# Altium integrated library TI_Logic_Specialty_Logic.IntLib: 2504 symbols (part 39 of 81)
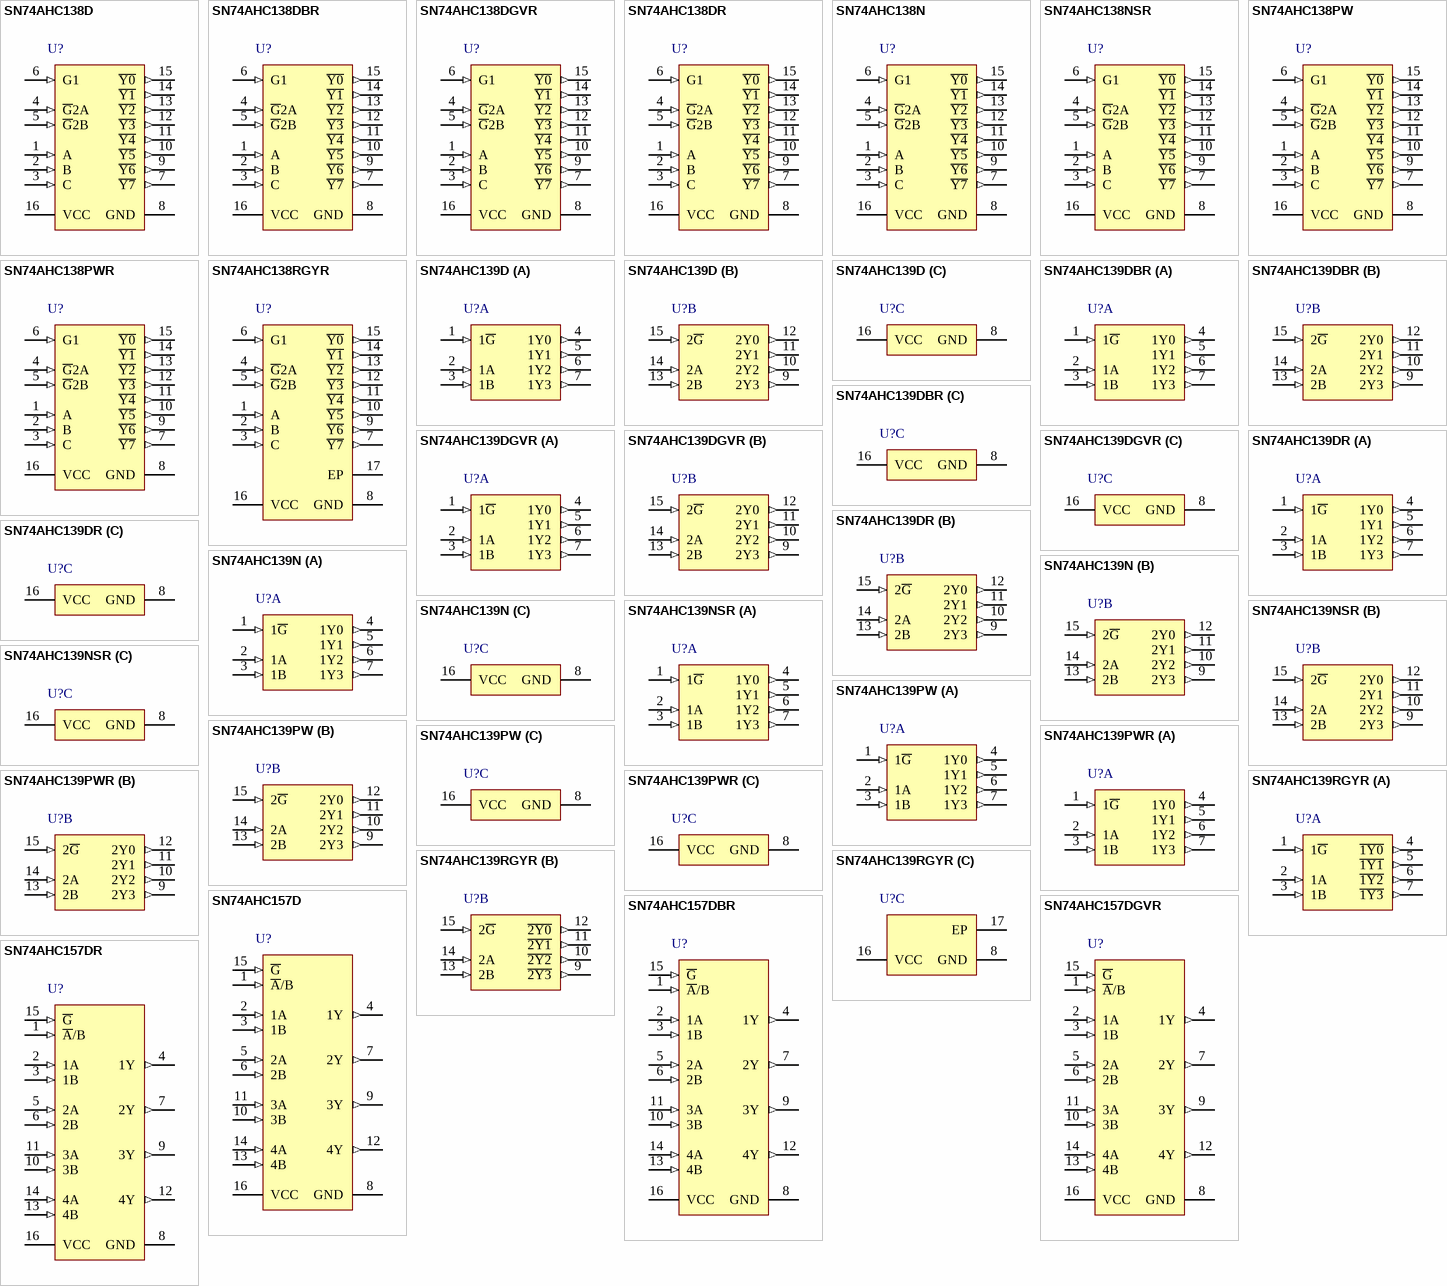
[diagram p142: symbols SN74AHC138D to SN74AHC157DR]

## SN74AHC139NSR
designator U?
Dual 2-Line To 4-Line Decoders / Demultiplexers, NS0016A, LARGE T&R; Generic Part Number: SN74AHC139; Manufacturer: Texas Instruments; PartNumber: SN74AHC139NSR; VCC(Min)(V): 2; VCC(Max)(V): 5.5; Function: Decoder/Demultiplexer; ICC @ Nom Voltage(Max)(mA): 0.04; F @ Nom Voltage(Max)(Mhz): 110; Configuration: 2：4; Rating: Military; Technology Family: AHC; Voltage(Nom)(V): 3.3,5; Schmitt Trigger: No; Output Drive (IOL/IOH)(Max)(mA): 50/-50; tpd @ Nom Voltage(Max)(ns): 13,8.5; DatasheetVersion: SCLS259L; PackageReference: NS0016A; Supplier 1: Mouser; Supplier Part Number 1: 595-SN74AHC139NSR; Supplier 2: Digi-Key; Supplier Part Number 2: 296-28840-2-ND; Supplier 3: Digi-Key; Supplier Part Number 3: 296-28840-1-ND; Supplier 4: Digi-Key; Supplier Part Number 4: 296-28840-6-ND; Operating Temperature Range(C): -40 to 125; Type: Standard; Channels(#): 2; ComponentLink1Description: Manufacturer URL; ComponentLink1URL: http://www.ti.com/; ComponentLink2Description: Datasheet; ComponentLink2URL: http://www.ti.com/lit/ds/symlink/sn74ahc139.pdf; ComponentLink3Description: Package Specification; ComponentLink3URL: http://www.ti.com/lit/ml/msop002a/msop002a.pdf
footprint NS0016A_N (SOIC,16-Leads,Body 10.5x5.6mm,Pitch 1.27mm,IPC Medium Density)
footprint NS0016A_M (SOIC,16-Leads,Body 10.5x5.6mm,Pitch 1.27mm,IPC Low Density)
footprint NS0016A_L (SOIC,16-Leads,Body 10.5x5.6mm,Pitch 1.27mm,IPC High Density)
part A pins: 1 1~{G} (in), 2 1A (in), 3 1B (in), 4 1Y0 (out), 5 1Y1 (out), 6 1Y2 (out), 7 1Y3 (out)
part B pins: 9 2Y3 (out), 10 2Y2 (out), 11 2Y1 (out), 12 2Y0 (out), 13 2B (in), 14 2A (in), 15 2~{G} (in)
part C pins: 8 GND (power), 16 VCC (power)

## SN74AHC139PW
designator U?
Dual 2-Line To 4-Line Decoders / Demultiplexers, PW0016A, TUBE; Generic Part Number: SN74AHC139; Manufacturer: Texas Instruments; PartNumber: SN74AHC139PW; VCC(Min)(V): 2; VCC(Max)(V): 5.5; Function: Decoder/Demultiplexer; ICC @ Nom Voltage(Max)(mA): 0.04; F @ Nom Voltage(Max)(Mhz): 110; Configuration: 2：4; Rating: Military; Technology Family: AHC; Voltage(Nom)(V): 3.3,5; Schmitt Trigger: No; Output Drive (IOL/IOH)(Max)(mA): 50/-50; tpd @ Nom Voltage(Max)(ns): 13,8.5; DatasheetVersion: SCLS259L; PackageReference: PW0016A; Supplier 1: Mouser; Supplier Part Number 1: 595-SN74AHC139PW; Supplier 2: Digi-Key; Supplier Part Number 2: 296-33671-5-ND; Operating Temperature Range(C): -40 to 125; Type: Standard; Channels(#): 2; Code_JEDEC: MO-153; ComponentLink1Description: Manufacturer URL; ComponentLink1URL: http://www.ti.com/; ComponentLink2Description: Datasheet; ComponentLink2URL: http://www.ti.com/lit/ds/symlink/sn74ahc139.pdf; ComponentLink3Description: Package Specification; ComponentLink3URL: http://www.ti.com/lit/ml/mpds361/mpds361.pdf
footprint PW0016A_N (SOP, 16-Leads, Body 5.1x4.5mm, Pitch 0.65mm, IPC Medium Density)
footprint PW0016A_M (SOP, 16-Leads, Body 5.1x4.5mm, Pitch 0.65mm, IPC Low Density)
footprint PW0016A_L (SOP, 16-Leads, Body 5.1x4.5mm, Pitch 0.65mm, IPC High Density)
part A pins: 1 1~{G} (in), 2 1A (in), 3 1B (in), 4 1Y0 (out), 5 1Y1 (out), 6 1Y2 (out), 7 1Y3 (out)
part B pins: 9 2Y3 (out), 10 2Y2 (out), 11 2Y1 (out), 12 2Y0 (out), 13 2B (in), 14 2A (in), 15 2~{G} (in)
part C pins: 8 GND (power), 16 VCC (power)

## SN74AHC139PWR
designator U?
Dual 2-Line To 4-Line Decoders / Demultiplexers, PW0016A, LARGE T&R; Generic Part Number: SN74AHC139; Manufacturer: Texas Instruments; PartNumber: SN74AHC139PWR; VCC(Min)(V): 2; VCC(Max)(V): 5.5; Function: Decoder/Demultiplexer; ICC @ Nom Voltage(Max)(mA): 0.04; F @ Nom Voltage(Max)(Mhz): 110; Configuration: 2：4; Rating: Military; Technology Family: AHC; Voltage(Nom)(V): 3.3,5; Schmitt Trigger: No; Output Drive (IOL/IOH)(Max)(mA): 50/-50; tpd @ Nom Voltage(Max)(ns): 13,8.5; DatasheetVersion: SCLS259L; PackageReference: PW0016A; Supplier 1: Mouser; Supplier Part Number 1: 595-SN74AHC139PWR; Supplier 2: Digi-Key; Supplier Part Number 2: 296-4547-2-ND; Supplier 3: Digi-Key; Supplier Part Number 3: 296-4547-1-ND; Supplier 4: Digi-Key; Supplier Part Number 4: 296-4547-6-ND; Operating Temperature Range(C): -40 to 125; Type: Standard; Channels(#): 2; Code_JEDEC: MO-153; ComponentLink1Description: Manufacturer URL; ComponentLink1URL: http://www.ti.com/; ComponentLink2Description: Datasheet; ComponentLink2URL: http://www.ti.com/lit/ds/symlink/sn74ahc139.pdf; ComponentLink3Description: Package Specification; ComponentLink3URL: http://www.ti.com/lit/ml/mpds361/mpds361.pdf
footprint PW0016A_N (SOP, 16-Leads, Body 5.1x4.5mm, Pitch 0.65mm, IPC Medium Density)
footprint PW0016A_M (SOP, 16-Leads, Body 5.1x4.5mm, Pitch 0.65mm, IPC Low Density)
footprint PW0016A_L (SOP, 16-Leads, Body 5.1x4.5mm, Pitch 0.65mm, IPC High Density)
part A pins: 1 1~{G} (in), 2 1A (in), 3 1B (in), 4 1Y0 (out), 5 1Y1 (out), 6 1Y2 (out), 7 1Y3 (out)
part B pins: 9 2Y3 (out), 10 2Y2 (out), 11 2Y1 (out), 12 2Y0 (out), 13 2B (in), 14 2A (in), 15 2~{G} (in)
part C pins: 8 GND (power), 16 VCC (power)

## SN74AHC139RGYR
designator U?
Dual 2-Line To 4-Line Decoders / Demultiplexers, RGY0016A, LARGE T&R; Generic Part Number: SN74AHC139; Manufacturer: Texas Instruments; PartNumber: SN74AHC139RGYR; VCC(Min)(V): 2; VCC(Max)(V): 5.5; Function: Decoder/Demultiplexer; ICC @ Nom Voltage(Max)(mA): 0.04; F @ Nom Voltage(Max)(Mhz): 110; Configuration: 2：4; Rating: Military; Technology Family: AHC; Voltage(Nom)(V): 3.3,5; Schmitt Trigger: No; Output Drive (IOL/IOH)(Max)(mA): 50/-50; tpd @ Nom Voltage(Max)(ns): 13,8.5; DatasheetVersion: SCLS259L; PackageReference: RGY0016A; Supplier 1: Mouser; Supplier Part Number 1: 595-SN74AHC139RGYR; Supplier 2: Digi-Key; Supplier Part Number 2: 296-13900-2-ND; Supplier 3: Digi-Key; Supplier Part Number 3: 296-13900-1-ND; Supplier 4: Digi-Key; Supplier Part Number 4: 296-13900-6-ND; Operating Temperature Range(C): -40 to 125; Type: Standard; Channels(#): 2; Code_JEDEC: MO-241; ComponentLink1Description: Manufacturer URL; ComponentLink1URL: http://www.ti.com/; ComponentLink2Description: Datasheet; ComponentLink2URL: http://www.ti.com/lit/ds/symlink/sn74ahc139.pdf; ComponentLink3Description: Package Specification; ComponentLink3URL: http://www.ti.com/lit/ml/mpqf115g/mpqf115g.pdf
footprint RGY0016A_V (QFN, 16-Leads, Body 4x3.5mm, Thermal Pad 2.55x2.05mm, TI Recommend)
part A pins: 1 1~{G} (in), 2 1A (in), 3 1B (in), 4 ~{1Y0} (out), 5 ~{1Y1} (out), 6 ~{1Y2} (out), 7 ~{1Y3} (out)
part B pins: 9 ~{2Y3} (out), 10 ~{2Y2} (out), 11 ~{2Y1} (out), 12 ~{2Y0} (out), 13 2B (in), 14 2A (in), 15 2~{G} (in)
part C pins: 8 GND (power), 16 VCC (power), 17 EP

## SN74AHC157D
designator U?
Quadruple 2-Line To 1-Line Data Selectors / Multiplexers, D0016A, TUBE; Generic Part Number: SN74AHC157; Manufacturer: Texas Instruments; PartNumber: SN74AHC157D; VCC(Min)(V): 2; VCC(Max)(V): 5.5; Output Type: CMOS; Function: Encoder/Multiplexer; ICC @ Nom Voltage(Max)(mA): 0.04; Input Type: LVTTL/CMOS; F @ Nom Voltage(Max)(Mhz): 110; Configuration: 2：1; Channels(#): 4; Rating: Catalog; Technology Family: AHC; Voltage(Nom)(V): 3.3,5; Schmitt Trigger: No; Output Drive (IOL/IOH)(Max)(mA): 50/-50; tpd @ Nom Voltage(Max)(ns): 11.5,7.5; DatasheetVersion: SCLS345J; PackageReference: D0016A; Supplier 1: Mouser; Supplier Part Number 1: 595-SN74AHC157D; Supplier 2: Digi-Key; Supplier Part Number 2: 296-4551-5-ND; Bits(#): 2; Operating Temperature Range(C): -40 to 125; Type: Standard; Code_JEDEC: MS-012 variation AC; ComponentLink1Description: Manufacturer URL; ComponentLink1URL: http://www.ti.com/; ComponentLink2Description: Datasheet; ComponentLink2URL: http://www.ti.com/lit/ds/symlink/sn74ahc157.pdf; ComponentLink3Description: Package Specification; ComponentLink3URL: http://www.ti.com/lit/ml/mpds178g/mpds178g.pdf
footprint D0016A_N (SOIC, 16-Leads, Body 10x4mm, Pitch 1.27mm, IPC Medium Density)
footprint D0016A_M (SOIC, 16-Leads, Body 10x4mm, Pitch 1.27mm, IPC Low Density)
footprint D0016A_L (SOIC, 16-Leads, Body 10x4mm, Pitch 1.27mm, IPC High Density)
pins: 1 ~{A}/B (in), 2 1A (in), 3 1B (in), 4 1Y (out), 5 2A (in), 6 2B (in), 7 2Y (out), 8 GND (power), 9 3Y (out), 10 3B (in), 11 3A (in), 12 4Y (out), 13 4B (in), 14 4A (in), 15 ~{G} (in), 16 VCC (power)

## SN74AHC157DBR
designator U?
Quadruple 2-Line To 1-Line Data Selectors / Multiplexers, DB0016A, LARGE T&R; Generic Part Number: SN74AHC157; Manufacturer: Texas Instruments; PartNumber: SN74AHC157DBR; VCC(Min)(V): 2; VCC(Max)(V): 5.5; Output Type: CMOS; Function: Encoder/Multiplexer; ICC @ Nom Voltage(Max)(mA): 0.04; Input Type: LVTTL/CMOS; F @ Nom Voltage(Max)(Mhz): 110; Configuration: 2：1; Channels(#): 4; Rating: Catalog; Technology Family: AHC; Voltage(Nom)(V): 3.3,5; Schmitt Trigger: No; Output Drive (IOL/IOH)(Max)(mA): 50/-50; tpd @ Nom Voltage(Max)(ns): 11.5,7.5; DatasheetVersion: SCLS345J; PackageReference: DB0016A; Supplier 1: Mouser; Supplier Part Number 1: 595-SN74AHC157DBR; Supplier 2: Digi-Key; Supplier Part Number 2: 296-4552-2-ND; Supplier 3: Digi-Key; Supplier Part Number 3: 296-4552-1-ND; Supplier 4: Digi-Key; Supplier Part Number 4: 296-4552-6-ND; Bits(#): 2; Operating Temperature Range(C): -40 to 125; Type: Standard; Code_JEDEC: MO-150; ComponentLink1Description: Manufacturer URL; ComponentLink1URL: http://www.ti.com/; ComponentLink2Description: Datasheet; ComponentLink2URL: http://www.ti.com/lit/ds/symlink/sn74ahc157.pdf; ComponentLink3Description: Package Specification; ComponentLink3URL: http://www.ti.com/lit/ml/mpds507/mpds507.pdf
footprint DB0016A_N (SOP, 16-Leads, Body 5.6x6.5mm, Pitch 0.65mm, IPC Medium Density)
footprint DB0016A_M (SOP, 16-Leads, Body 5.6x6.5mm, Pitch 0.65mm, IPC Low Density)
footprint DB0016A_L (SOP, 16-Leads, Body 5.6x6.5mm, Pitch 0.65mm, IPC High Density)
pins: 1 ~{A}/B (in), 2 1A (in), 3 1B (in), 4 1Y (out), 5 2A (in), 6 2B (in), 7 2Y (out), 8 GND (power), 9 3Y (out), 10 3B (in), 11 3A (in), 12 4Y (out), 13 4B (in), 14 4A (in), 15 ~{G} (in), 16 VCC (power)

## SN74AHC157DGVR
designator U?
Quadruple 2-Line To 1-Line Data Selectors / Multiplexers, DGV0016A, LARGE T&R; Generic Part Number: SN74AHC157; Manufacturer: Texas Instruments; PartNumber: SN74AHC157DGVR; VCC(Min)(V): 2; VCC(Max)(V): 5.5; Output Type: CMOS; Function: Encoder/Multiplexer; ICC @ Nom Voltage(Max)(mA): 0.04; Input Type: LVTTL/CMOS; F @ Nom Voltage(Max)(Mhz): 110; Configuration: 2：1; Channels(#): 4; Rating: Catalog; Technology Family: AHC; Voltage(Nom)(V): 3.3,5; Schmitt Trigger: No; Output Drive (IOL/IOH)(Max)(mA): 50/-50; tpd @ Nom Voltage(Max)(ns): 11.5,7.5; DatasheetVersion: SCLS345J; PackageReference: DGV0016A; Supplier 1: Mouser; Supplier Part Number 1: 595-SN74AHC157DGVR; Supplier 2: Digi-Key; Supplier Part Number 2: 296-4553-2-ND; Supplier 3: Digi-Key; Supplier Part Number 3: 296-4553-1-ND; Supplier 4: Digi-Key; Supplier Part Number 4: 296-4553-6-ND; Bits(#): 2; Operating Temperature Range(C): -40 to 125; Type: Standard; Code_JEDEC: MO-194; ComponentLink1Description: Manufacturer URL; ComponentLink1URL: http://www.ti.com/; ComponentLink2Description: Datasheet; ComponentLink2URL: http://www.ti.com/lit/ds/symlink/sn74ahc157.pdf; ComponentLink3Description: Package Specification; ComponentLink3URL: http://www.ti.com/lit/ml/mpds006c/mpds006c.pdf
footprint DGV0016A_N (SOP, 16-Leads, Body 4.5x3.7mm, Pitch 0.4mm, IPC Medium Density)
footprint DGV0016A_M (SOP, 16-Leads, Body 4.5x3.7mm, Pitch 0.4mm, IPC Low Density)
footprint DGV0016A_L (SOP, 16-Leads, Body 4.5x3.7mm, Pitch 0.4mm, IPC High Density)
pins: 1 ~{A}/B (in), 2 1A (in), 3 1B (in), 4 1Y (out), 5 2A (in), 6 2B (in), 7 2Y (out), 8 GND (power), 9 3Y (out), 10 3B (in), 11 3A (in), 12 4Y (out), 13 4B (in), 14 4A (in), 15 ~{G} (in), 16 VCC (power)

## SN74AHC157DR
designator U?
Quadruple 2-Line To 1-Line Data Selectors / Multiplexers, D0016A, LARGE T&R; Generic Part Number: SN74AHC157; Manufacturer: Texas Instruments; PartNumber: SN74AHC157DR; VCC(Min)(V): 2; VCC(Max)(V): 5.5; Output Type: CMOS; Function: Encoder/Multiplexer; ICC @ Nom Voltage(Max)(mA): 0.04; Input Type: LVTTL/CMOS; F @ Nom Voltage(Max)(Mhz): 110; Configuration: 2：1; Channels(#): 4; Rating: Catalog; Technology Family: AHC; Voltage(Nom)(V): 3.3,5; Schmitt Trigger: No; Output Drive (IOL/IOH)(Max)(mA): 50/-50; tpd @ Nom Voltage(Max)(ns): 11.5,7.5; DatasheetVersion: SCLS345J; PackageReference: D0016A; Supplier 1: Mouser; Supplier Part Number 1: 595-SN74AHC157DR; Supplier 2: Digi-Key; Supplier Part Number 2: 296-14700-2-ND; Supplier 3: Digi-Key; Supplier Part Number 3: 296-14700-1-ND; Supplier 4: Digi-Key; Supplier Part Number 4: 296-14700-6-ND; Bits(#): 2; Operating Temperature Range(C): -40 to 125; Type: Standard; Code_JEDEC: MS-012 variation AC; ComponentLink1Description: Manufacturer URL; ComponentLink1URL: http://www.ti.com/; ComponentLink2Description: Datasheet; ComponentLink2URL: http://www.ti.com/lit/ds/symlink/sn74ahc157.pdf; ComponentLink3Description: Package Specification; ComponentLink3URL: http://www.ti.com/lit/ml/mpds178g/mpds178g.pdf
footprint D0016A_N (SOIC, 16-Leads, Body 10x4mm, Pitch 1.27mm, IPC Medium Density)
footprint D0016A_M (SOIC, 16-Leads, Body 10x4mm, Pitch 1.27mm, IPC Low Density)
footprint D0016A_L (SOIC, 16-Leads, Body 10x4mm, Pitch 1.27mm, IPC High Density)
pins: 1 ~{A}/B (in), 2 1A (in), 3 1B (in), 4 1Y (out), 5 2A (in), 6 2B (in), 7 2Y (out), 8 GND (power), 9 3Y (out), 10 3B (in), 11 3A (in), 12 4Y (out), 13 4B (in), 14 4A (in), 15 ~{G} (in), 16 VCC (power)

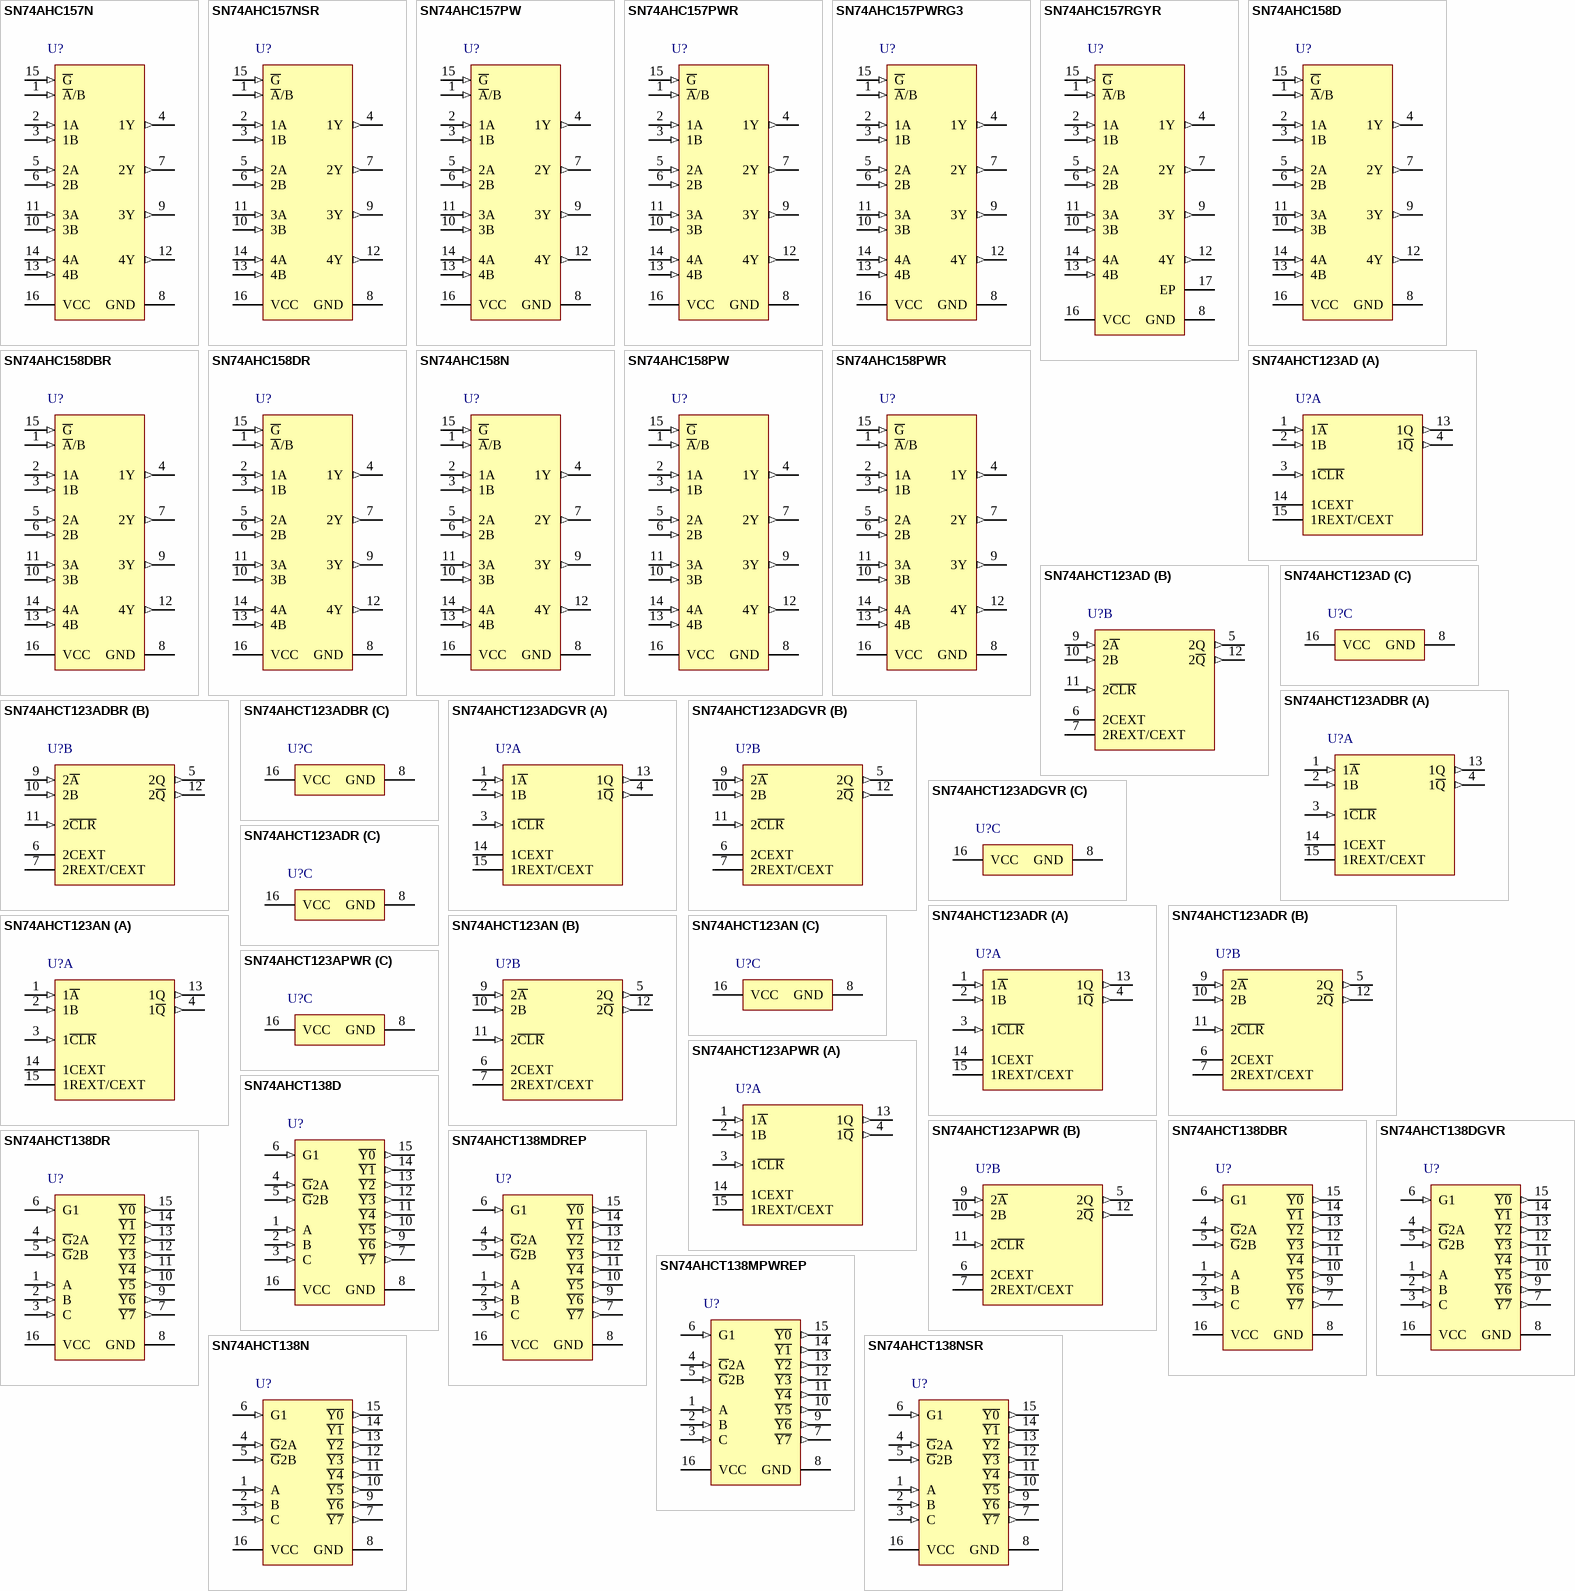
[diagram p51: symbols SN74AHC157N to SN74AHCT138NSR]

## SN74AHC157N
designator U?
Quadruple 2-Line To 1-Line Data Selectors / Multiplexers, N0016A, TUBE; Generic Part Number: SN74AHC157; Manufacturer: Texas Instruments; PartNumber: SN74AHC157N; VCC(Min)(V): 2; VCC(Max)(V): 5.5; Output Type: CMOS; Function: Encoder/Multiplexer; ICC @ Nom Voltage(Max)(mA): 0.04; Input Type: LVTTL/CMOS; F @ Nom Voltage(Max)(Mhz): 110; Configuration: 2：1; Channels(#): 4; Rating: Catalog; Technology Family: AHC; Voltage(Nom)(V): 3.3,5; Schmitt Trigger: No; Output Drive (IOL/IOH)(Max)(mA): 50/-50; tpd @ Nom Voltage(Max)(ns): 11.5,7.5; DatasheetVersion: SCLS345J; PackageReference: N0016A; Supplier 1: Mouser; Supplier Part Number 1: 595-SN74AHC157N; Supplier 2: Digi-Key; Supplier Part Number 2: 296-4554-5-ND; Bits(#): 2; Operating Temperature Range(C): -40 to 125; Type: Standard; Code_JEDEC: MS-001; ComponentLink1Description: Manufacturer URL; ComponentLink1URL: http://www.ti.com/; ComponentLink2Description: Datasheet; ComponentLink2URL: http://www.ti.com/lit/ds/symlink/sn74ahc157.pdf; ComponentLink3Description: Package Specification; ComponentLink3URL: http://www.ti.com/lit/ml/mpdi002c/mpdi002c.pdf
footprint N0016A (DIP, 16-Leads, Body 19.7x6.6mm, Pitch 2.54mm)
pins: 1 ~{A}/B (in), 2 1A (in), 3 1B (in), 4 1Y (out), 5 2A (in), 6 2B (in), 7 2Y (out), 8 GND (power), 9 3Y (out), 10 3B (in), 11 3A (in), 12 4Y (out), 13 4B (in), 14 4A (in), 15 ~{G} (in), 16 VCC (power)

## SN74AHC157NSR
designator U?
Quadruple 2-Line To 1-Line Data Selectors / Multiplexers, NS0016A, LARGE T&R; Generic Part Number: SN74AHC157; Manufacturer: Texas Instruments; PartNumber: SN74AHC157NSR; VCC(Min)(V): 2; VCC(Max)(V): 5.5; Output Type: CMOS; Function: Encoder/Multiplexer; ICC @ Nom Voltage(Max)(mA): 0.04; Input Type: LVTTL/CMOS; F @ Nom Voltage(Max)(Mhz): 110; Configuration: 2：1; Channels(#): 4; Rating: Catalog; Technology Family: AHC; Voltage(Nom)(V): 3.3,5; Schmitt Trigger: No; Output Drive (IOL/IOH)(Max)(mA): 50/-50; tpd @ Nom Voltage(Max)(ns): 11.5,7.5; DatasheetVersion: SCLS345J; PackageReference: NS0016A; Supplier 1: Mouser; Supplier Part Number 1: 595-SN74AHC157NSR; Supplier 2: Digi-Key; Supplier Part Number 2: 296-13134-2-ND; Supplier 3: Digi-Key; Supplier Part Number 3: 296-13134-1-ND; Supplier 4: Digi-Key; Supplier Part Number 4: 296-13134-6-ND; Bits(#): 2; Operating Temperature Range(C): -40 to 125; Type: Standard; ComponentLink1Description: Manufacturer URL; ComponentLink1URL: http://www.ti.com/; ComponentLink2Description: Datasheet; ComponentLink2URL: http://www.ti.com/lit/ds/symlink/sn74ahc157.pdf; ComponentLink3Description: Package Specification; ComponentLink3URL: http://www.ti.com/lit/ml/msop002a/msop002a.pdf
footprint NS0016A_N (SOIC,16-Leads,Body 10.5x5.6mm,Pitch 1.27mm,IPC Medium Density)
footprint NS0016A_M (SOIC,16-Leads,Body 10.5x5.6mm,Pitch 1.27mm,IPC Low Density)
footprint NS0016A_L (SOIC,16-Leads,Body 10.5x5.6mm,Pitch 1.27mm,IPC High Density)
pins: 1 ~{A}/B (in), 2 1A (in), 3 1B (in), 4 1Y (out), 5 2A (in), 6 2B (in), 7 2Y (out), 8 GND (power), 9 3Y (out), 10 3B (in), 11 3A (in), 12 4Y (out), 13 4B (in), 14 4A (in), 15 ~{G} (in), 16 VCC (power)

## SN74AHC157PW
designator U?
Quadruple 2-Line To 1-Line Data Selectors / Multiplexers, PW0016A, TUBE; Generic Part Number: SN74AHC157; Manufacturer: Texas Instruments; PartNumber: SN74AHC157PW; VCC(Min)(V): 2; VCC(Max)(V): 5.5; Output Type: CMOS; Function: Encoder/Multiplexer; ICC @ Nom Voltage(Max)(mA): 0.04; Input Type: LVTTL/CMOS; F @ Nom Voltage(Max)(Mhz): 110; Configuration: 2：1; Channels(#): 4; Rating: Catalog; Technology Family: AHC; Voltage(Nom)(V): 3.3,5; Schmitt Trigger: No; Output Drive (IOL/IOH)(Max)(mA): 50/-50; tpd @ Nom Voltage(Max)(ns): 11.5,7.5; DatasheetVersion: SCLS345J; PackageReference: PW0016A; Supplier 1: Mouser; Supplier Part Number 1: 595-SN74AHC157PW; Supplier 2: Digi-Key; Supplier Part Number 2: 296-33672-5-ND; Bits(#): 2; Operating Temperature Range(C): -40 to 125; Type: Standard; Code_JEDEC: MO-153; ComponentLink1Description: Manufacturer URL; ComponentLink1URL: http://www.ti.com/; ComponentLink2Description: Datasheet; ComponentLink2URL: http://www.ti.com/lit/ds/symlink/sn74ahc157.pdf; ComponentLink3Description: Package Specification; ComponentLink3URL: http://www.ti.com/lit/ml/mpds361/mpds361.pdf
footprint PW0016A_N (SOP, 16-Leads, Body 5.1x4.5mm, Pitch 0.65mm, IPC Medium Density)
footprint PW0016A_M (SOP, 16-Leads, Body 5.1x4.5mm, Pitch 0.65mm, IPC Low Density)
footprint PW0016A_L (SOP, 16-Leads, Body 5.1x4.5mm, Pitch 0.65mm, IPC High Density)
pins: 1 ~{A}/B (in), 2 1A (in), 3 1B (in), 4 1Y (out), 5 2A (in), 6 2B (in), 7 2Y (out), 8 GND (power), 9 3Y (out), 10 3B (in), 11 3A (in), 12 4Y (out), 13 4B (in), 14 4A (in), 15 ~{G} (in), 16 VCC (power)

## SN74AHC157PWR
designator U?
Quadruple 2-Line To 1-Line Data Selectors / Multiplexers, PW0016A, LARGE T&R; Generic Part Number: SN74AHC157; Manufacturer: Texas Instruments; PartNumber: SN74AHC157PWR; VCC(Min)(V): 2; VCC(Max)(V): 5.5; Output Type: CMOS; Function: Encoder/Multiplexer; ICC @ Nom Voltage(Max)(mA): 0.04; Input Type: LVTTL/CMOS; F @ Nom Voltage(Max)(Mhz): 110; Configuration: 2：1; Channels(#): 4; Rating: Catalog; Technology Family: AHC; Voltage(Nom)(V): 3.3,5; Schmitt Trigger: No; Output Drive (IOL/IOH)(Max)(mA): 50/-50; tpd @ Nom Voltage(Max)(ns): 11.5,7.5; DatasheetVersion: SCLS345J; PackageReference: PW0016A; Supplier 1: Mouser; Supplier Part Number 1: 595-SN74AHC157PWR; Supplier 2: Digi-Key; Supplier Part Number 2: 296-4555-2-ND; Supplier 3: Digi-Key; Supplier Part Number 3: 296-4555-1-ND; Supplier 4: Digi-Key; Supplier Part Number 4: 296-4555-6-ND; Bits(#): 2; Operating Temperature Range(C): -40 to 125; Type: Standard; Code_JEDEC: MO-153; ComponentLink1Description: Manufacturer URL; ComponentLink1URL: http://www.ti.com/; ComponentLink2Description: Datasheet; ComponentLink2URL: http://www.ti.com/lit/ds/symlink/sn74ahc157.pdf; ComponentLink3Description: Package Specification; ComponentLink3URL: http://www.ti.com/lit/ml/mpds361/mpds361.pdf
footprint PW0016A_N (SOP, 16-Leads, Body 5.1x4.5mm, Pitch 0.65mm, IPC Medium Density)
footprint PW0016A_M (SOP, 16-Leads, Body 5.1x4.5mm, Pitch 0.65mm, IPC Low Density)
footprint PW0016A_L (SOP, 16-Leads, Body 5.1x4.5mm, Pitch 0.65mm, IPC High Density)
pins: 1 ~{A}/B (in), 2 1A (in), 3 1B (in), 4 1Y (out), 5 2A (in), 6 2B (in), 7 2Y (out), 8 GND (power), 9 3Y (out), 10 3B (in), 11 3A (in), 12 4Y (out), 13 4B (in), 14 4A (in), 15 ~{G} (in), 16 VCC (power)

## SN74AHC157PWRG3
designator U?
Quadruple 2-Line To 1-Line Data Selectors / Multiplexers, PW0016A, LARGE T&R; Generic Part Number: SN74AHC157; Manufacturer: Texas Instruments; PartNumber: SN74AHC157PWRG3; VCC(Min)(V): 2; VCC(Max)(V): 5.5; Output Type: CMOS; Function: Encoder/Multiplexer; ICC @ Nom Voltage(Max)(mA): 0.04; Input Type: LVTTL/CMOS; F @ Nom Voltage(Max)(Mhz): 110; Configuration: 2：1; Channels(#): 4; Rating: Catalog; Technology Family: AHC; Voltage(Nom)(V): 3.3,5; Schmitt Trigger: No; Output Drive (IOL/IOH)(Max)(mA): 50/-50; tpd @ Nom Voltage(Max)(ns): 11.5,7.5; DatasheetVersion: SCLS345J; PackageReference: PW0016A; Supplier 1: Mouser; Supplier Part Number 1: 595-SN74AHC157PWRG3; Supplier 2: Digi-Key; Supplier Part Number 2: 296-40536-2-ND; Supplier 3: Digi-Key; Supplier Part Number 3: 296-40536-1-ND; Supplier 4: Digi-Key; Supplier Part Number 4: 296-40536-6-ND; Bits(#): 2; Operating Temperature Range(C): -40 to 125; Type: Standard; Code_JEDEC: MO-153; ComponentLink1Description: Manufacturer URL; ComponentLink1URL: http://www.ti.com/; ComponentLink2Description: Datasheet; ComponentLink2URL: http://www.ti.com/lit/ds/symlink/sn74ahc157.pdf; ComponentLink3Description: Package Specification; ComponentLink3URL: http://www.ti.com/lit/ml/mpds361/mpds361.pdf
footprint PW0016A_N (SOP, 16-Leads, Body 5.1x4.5mm, Pitch 0.65mm, IPC Medium Density)
footprint PW0016A_M (SOP, 16-Leads, Body 5.1x4.5mm, Pitch 0.65mm, IPC Low Density)
footprint PW0016A_L (SOP, 16-Leads, Body 5.1x4.5mm, Pitch 0.65mm, IPC High Density)
pins: 1 ~{A}/B (in), 2 1A (in), 3 1B (in), 4 1Y (out), 5 2A (in), 6 2B (in), 7 2Y (out), 8 GND (power), 9 3Y (out), 10 3B (in), 11 3A (in), 12 4Y (out), 13 4B (in), 14 4A (in), 15 ~{G} (in), 16 VCC (power)

## SN74AHC157RGYR
designator U?
Quadruple 2-Line To 1-Line Data Selectors / Multiplexers, RGY0016A, LARGE T&R; Generic Part Number: SN74AHC157; Manufacturer: Texas Instruments; PartNumber: SN74AHC157RGYR; VCC(Min)(V): 2; VCC(Max)(V): 5.5; Output Type: CMOS; Function: Encoder/Multiplexer; ICC @ Nom Voltage(Max)(mA): 0.04; Input Type: LVTTL/CMOS; F @ Nom Voltage(Max)(Mhz): 110; Configuration: 2：1; Channels(#): 4; Rating: Catalog; Technology Family: AHC; Voltage(Nom)(V): 3.3,5; Schmitt Trigger: No; Output Drive (IOL/IOH)(Max)(mA): 50/-50; tpd @ Nom Voltage(Max)(ns): 11.5,7.5; DatasheetVersion: SCLS345J; PackageReference: RGY0016A; Supplier 1: Mouser; Supplier Part Number 1: 595-SN74AHC157RGYR; Supplier 2: Digi-Key; Supplier Part Number 2: 296-13902-2-ND; Supplier 3: Digi-Key; Supplier Part Number 3: 296-13902-1-ND; Supplier 4: Digi-Key; Supplier Part Number 4: 296-13902-6-ND; Bits(#): 2; Operating Temperature Range(C): -40 to 125; Type: Standard; Code_JEDEC: MO-241; ComponentLink1Description: Manufacturer URL; ComponentLink1URL: http://www.ti.com/; ComponentLink2Description: Datasheet; ComponentLink2URL: http://www.ti.com/lit/ds/symlink/sn74ahc157.pdf; ComponentLink3Description: Package Specification; ComponentLink3URL: http://www.ti.com/lit/ml/mpqf115g/mpqf115g.pdf
footprint RGY0016A_V (QFN, 16-Leads, Body 4x3.5mm, Thermal Pad 2.55x2.05mm, TI Recommend)
pins: 1 ~{A}/B (in), 2 1A (in), 3 1B (in), 4 1Y (out), 5 2A (in), 6 2B (in), 7 2Y (out), 8 GND (power), 9 3Y (out), 10 3B (in), 11 3A (in), 12 4Y (out), 13 4B (in), 14 4A (in), 15 ~{G} (in), 16 VCC (power), 17 EP

## SN74AHC158D
designator U?
Quadruple 2-Line To 1-Line Data Selectors / Multiplexers, D0016A, TUBE; Generic Part Number: SN74AHC158; Manufacturer: Texas Instruments; PartNumber: SN74AHC158D; VCC(Min)(V): 2; VCC(Max)(V): 5.5; Output Type: CMOS; Function: Encoder/Multiplexer; ICC @ Nom Voltage(Max)(mA): 0.04; Input Type: LVTTL/CMOS; F @ Nom Voltage(Max)(Mhz): 110; Configuration: 2：1; Channels(#): 4; Rating: Catalog; Technology Family: AHC; Voltage(Nom)(V): 3.3,5; Schmitt Trigger: No; Output Drive (IOL/IOH)(Max)(mA): 50/-50; tpd @ Nom Voltage(Max)(ns): 11.5,7.5; DatasheetVersion: SCLS346G; PackageReference: D0016A; Supplier 1: Mouser; Supplier Part Number 1: 595-SN74AHC158D; Supplier 2: Digi-Key; Supplier Part Number 2: 296-33673-5-ND; Bits(#): 2; Operating Temperature Range(C): -40 to 85; Type: Standard; Code_JEDEC: MS-012 variation AC; ComponentLink1Description: Manufacturer URL; ComponentLink1URL: http://www.ti.com/; ComponentLink2Description: Datasheet; ComponentLink2URL: http://www.ti.com/lit/ds/symlink/sn74ahc158.pdf; ComponentLink3Description: Package Specification; ComponentLink3URL: http://www.ti.com/lit/ml/mpds178g/mpds178g.pdf
footprint D0016A_N (SOIC, 16-Leads, Body 10x4mm, Pitch 1.27mm, IPC Medium Density)
footprint D0016A_M (SOIC, 16-Leads, Body 10x4mm, Pitch 1.27mm, IPC Low Density)
footprint D0016A_L (SOIC, 16-Leads, Body 10x4mm, Pitch 1.27mm, IPC High Density)
pins: 1 ~{A}/B (in), 2 1A (in), 3 1B (in), 4 1Y (out), 5 2A (in), 6 2B (in), 7 2Y (out), 8 GND (power), 9 3Y (out), 10 3B (in), 11 3A (in), 12 4Y (out), 13 4B (in), 14 4A (in), 15 ~{G} (in), 16 VCC (power)

## SN74AHC158DBR
designator U?
Quadruple 2-Line To 1-Line Data Selectors / Multiplexers, DB0016A, LARGE T&R; Generic Part Number: SN74AHC158; Manufacturer: Texas Instruments; PartNumber: SN74AHC158DBR; VCC(Min)(V): 2; VCC(Max)(V): 5.5; Output Type: CMOS; Function: Encoder/Multiplexer; ICC @ Nom Voltage(Max)(mA): 0.04; Input Type: LVTTL/CMOS; F @ Nom Voltage(Max)(Mhz): 110; Configuration: 2：1; Channels(#): 4; Rating: Catalog; Technology Family: AHC; Voltage(Nom)(V): 3.3,5; Schmitt Trigger: No; Output Drive (IOL/IOH)(Max)(mA): 50/-50; tpd @ Nom Voltage(Max)(ns): 11.5,7.5; DatasheetVersion: SCLS346G; PackageReference: DB0016A; Supplier 1: Mouser; Supplier Part Number 1: 595-SN74AHC158DBR; Supplier 2: Digi-Key; Supplier Part Number 2: 296-4556-2-ND; Supplier 3: Digi-Key; Supplier Part Number 3: 296-4556-1-ND; Supplier 4: Digi-Key; Supplier Part Number 4: 296-4556-6-ND; Bits(#): 2; Operating Temperature Range(C): -40 to 85; Type: Standard; Code_JEDEC: MO-150; ComponentLink1Description: Manufacturer URL; ComponentLink1URL: http://www.ti.com/; ComponentLink2Description: Datasheet; ComponentLink2URL: http://www.ti.com/lit/ds/symlink/sn74ahc158.pdf; ComponentLink3Description: Package Specification; ComponentLink3URL: http://www.ti.com/lit/ml/mpds507/mpds507.pdf
footprint DB0016A_N (SOP, 16-Leads, Body 5.6x6.5mm, Pitch 0.65mm, IPC Medium Density)
footprint DB0016A_M (SOP, 16-Leads, Body 5.6x6.5mm, Pitch 0.65mm, IPC Low Density)
footprint DB0016A_L (SOP, 16-Leads, Body 5.6x6.5mm, Pitch 0.65mm, IPC High Density)
pins: 1 ~{A}/B (in), 2 1A (in), 3 1B (in), 4 1Y (out), 5 2A (in), 6 2B (in), 7 2Y (out), 8 GND (power), 9 3Y (out), 10 3B (in), 11 3A (in), 12 4Y (out), 13 4B (in), 14 4A (in), 15 ~{G} (in), 16 VCC (power)

## SN74AHC158DR
designator U?
Quadruple 2-Line To 1-Line Data Selectors / Multiplexers, D0016A, LARGE T&R; Generic Part Number: SN74AHC158; Manufacturer: Texas Instruments; PartNumber: SN74AHC158DR; VCC(Min)(V): 2; VCC(Max)(V): 5.5; Output Type: CMOS; Function: Encoder/Multiplexer; ICC @ Nom Voltage(Max)(mA): 0.04; Input Type: LVTTL/CMOS; F @ Nom Voltage(Max)(Mhz): 110; Configuration: 2：1; Channels(#): 4; Rating: Catalog; Technology Family: AHC; Voltage(Nom)(V): 3.3,5; Schmitt Trigger: No; Output Drive (IOL/IOH)(Max)(mA): 50/-50; tpd @ Nom Voltage(Max)(ns): 11.5,7.5; DatasheetVersion: SCLS346G; PackageReference: D0016A; Supplier 1: Mouser; Supplier Part Number 1: 595-SN74AHC158DR; Supplier 2: Digi-Key; Supplier Part Number 2: 296-4558-2-ND; Supplier 3: Digi-Key; Supplier Part Number 3: 296-4558-1-ND; Supplier 4: Digi-Key; Supplier Part Number 4: 296-4558-6-ND; Bits(#): 2; Operating Temperature Range(C): -40 to 85; Type: Standard; Code_JEDEC: MS-012 variation AC; ComponentLink1Description: Manufacturer URL; ComponentLink1URL: http://www.ti.com/; ComponentLink2Description: Datasheet; ComponentLink2URL: http://www.ti.com/lit/ds/symlink/sn74ahc158.pdf; ComponentLink3Description: Package Specification; ComponentLink3URL: http://www.ti.com/lit/ml/mpds178g/mpds178g.pdf
footprint D0016A_N (SOIC, 16-Leads, Body 10x4mm, Pitch 1.27mm, IPC Medium Density)
footprint D0016A_M (SOIC, 16-Leads, Body 10x4mm, Pitch 1.27mm, IPC Low Density)
footprint D0016A_L (SOIC, 16-Leads, Body 10x4mm, Pitch 1.27mm, IPC High Density)
pins: 1 ~{A}/B (in), 2 1A (in), 3 1B (in), 4 1Y (out), 5 2A (in), 6 2B (in), 7 2Y (out), 8 GND (power), 9 3Y (out), 10 3B (in), 11 3A (in), 12 4Y (out), 13 4B (in), 14 4A (in), 15 ~{G} (in), 16 VCC (power)

## SN74AHC158N
designator U?
Quadruple 2-Line To 1-Line Data Selectors / Multiplexers, N0016A, TUBE; Generic Part Number: SN74AHC158; Manufacturer: Texas Instruments; PartNumber: SN74AHC158N; VCC(Min)(V): 2; VCC(Max)(V): 5.5; Output Type: CMOS; Function: Encoder/Multiplexer; ICC @ Nom Voltage(Max)(mA): 0.04; Input Type: LVTTL/CMOS; F @ Nom Voltage(Max)(Mhz): 110; Configuration: 2：1; Channels(#): 4; Rating: Catalog; Technology Family: AHC; Voltage(Nom)(V): 3.3,5; Schmitt Trigger: No; Output Drive (IOL/IOH)(Max)(mA): 50/-50; tpd @ Nom Voltage(Max)(ns): 11.5,7.5; DatasheetVersion: SCLS346G; PackageReference: N0016A; Supplier 1: Mouser; Supplier Part Number 1: 595-SN74AHC158N; Supplier 2: Digi-Key; Supplier Part Number 2: 296-33674-5-ND; Bits(#): 2; Operating Temperature Range(C): -40 to 85; Type: Standard; Code_JEDEC: MS-001; ComponentLink1Description: Manufacturer URL; ComponentLink1URL: http://www.ti.com/; ComponentLink2Description: Datasheet; ComponentLink2URL: http://www.ti.com/lit/ds/symlink/sn74ahc158.pdf; ComponentLink3Description: Package Specification; ComponentLink3URL: http://www.ti.com/lit/ml/mpdi002c/mpdi002c.pdf
footprint N0016A (DIP, 16-Leads, Body 19.7x6.6mm, Pitch 2.54mm)
pins: 1 ~{A}/B (in), 2 1A (in), 3 1B (in), 4 1Y (out), 5 2A (in), 6 2B (in), 7 2Y (out), 8 GND (power), 9 3Y (out), 10 3B (in), 11 3A (in), 12 4Y (out), 13 4B (in), 14 4A (in), 15 ~{G} (in), 16 VCC (power)

## SN74AHC158PW
designator U?
Quadruple 2-Line To 1-Line Data Selectors / Multiplexers, PW0016A, TUBE; Generic Part Number: SN74AHC158; Manufacturer: Texas Instruments; PartNumber: SN74AHC158PW; VCC(Min)(V): 2; VCC(Max)(V): 5.5; Output Type: CMOS; Function: Encoder/Multiplexer; ICC @ Nom Voltage(Max)(mA): 0.04; Input Type: LVTTL/CMOS; F @ Nom Voltage(Max)(Mhz): 110; Configuration: 2：1; Channels(#): 4; Rating: Catalog; Technology Family: AHC; Voltage(Nom)(V): 3.3,5; Schmitt Trigger: No; Output Drive (IOL/IOH)(Max)(mA): 50/-50; tpd @ Nom Voltage(Max)(ns): 11.5,7.5; DatasheetVersion: SCLS346G; PackageReference: PW0016A; Supplier 1: Mouser; Supplier Part Number 1: 595-SN74AHC158PW; Supplier 2: Digi-Key; Supplier Part Number 2: SN74AHC158PW-ND; Bits(#): 2; Operating Temperature Range(C): -40 to 85; Type: Standard; Code_JEDEC: MO-153; ComponentLink1Description: Manufacturer URL; ComponentLink1URL: http://www.ti.com/; ComponentLink2Description: Datasheet; ComponentLink2URL: http://www.ti.com/lit/ds/symlink/sn74ahc158.pdf; ComponentLink3Description: Package Specification; ComponentLink3URL: http://www.ti.com/lit/ml/mpds361/mpds361.pdf
footprint PW0016A_N (SOP, 16-Leads, Body 5.1x4.5mm, Pitch 0.65mm, IPC Medium Density)
footprint PW0016A_M (SOP, 16-Leads, Body 5.1x4.5mm, Pitch 0.65mm, IPC Low Density)
footprint PW0016A_L (SOP, 16-Leads, Body 5.1x4.5mm, Pitch 0.65mm, IPC High Density)
pins: 1 ~{A}/B (in), 2 1A (in), 3 1B (in), 4 1Y (out), 5 2A (in), 6 2B (in), 7 2Y (out), 8 GND (power), 9 3Y (out), 10 3B (in), 11 3A (in), 12 4Y (out), 13 4B (in), 14 4A (in), 15 ~{G} (in), 16 VCC (power)

## SN74AHC158PWR
designator U?
Quadruple 2-Line To 1-Line Data Selectors / Multiplexers, PW0016A, LARGE T&R; Generic Part Number: SN74AHC158; Manufacturer: Texas Instruments; PartNumber: SN74AHC158PWR; VCC(Min)(V): 2; VCC(Max)(V): 5.5; Output Type: CMOS; Function: Encoder/Multiplexer; ICC @ Nom Voltage(Max)(mA): 0.04; Input Type: LVTTL/CMOS; F @ Nom Voltage(Max)(Mhz): 110; Configuration: 2：1; Channels(#): 4; Rating: Catalog; Technology Family: AHC; Voltage(Nom)(V): 3.3,5; Schmitt Trigger: No; Output Drive (IOL/IOH)(Max)(mA): 50/-50; tpd @ Nom Voltage(Max)(ns): 11.5,7.5; DatasheetVersion: SCLS346G; PackageReference: PW0016A; Supplier 1: Mouser; Supplier Part Number 1: 595-SN74AHC158PWR; Supplier 2: Digi-Key; Supplier Part Number 2: 296-4559-2-ND; Supplier 3: Digi-Key; Supplier Part Number 3: 296-4559-1-ND; Supplier 4: Digi-Key; Supplier Part Number 4: 296-4559-6-ND; Bits(#): 2; Operating Temperature Range(C): -40 to 85; Type: Standard; Code_JEDEC: MO-153; ComponentLink1Description: Manufacturer URL; ComponentLink1URL: http://www.ti.com/; ComponentLink2Description: Datasheet; ComponentLink2URL: http://www.ti.com/lit/ds/symlink/sn74ahc158.pdf; ComponentLink3Description: Package Specification; ComponentLink3URL: http://www.ti.com/lit/ml/mpds361/mpds361.pdf
footprint PW0016A_N (SOP, 16-Leads, Body 5.1x4.5mm, Pitch 0.65mm, IPC Medium Density)
footprint PW0016A_M (SOP, 16-Leads, Body 5.1x4.5mm, Pitch 0.65mm, IPC Low Density)
footprint PW0016A_L (SOP, 16-Leads, Body 5.1x4.5mm, Pitch 0.65mm, IPC High Density)
pins: 1 ~{A}/B (in), 2 1A (in), 3 1B (in), 4 1Y (out), 5 2A (in), 6 2B (in), 7 2Y (out), 8 GND (power), 9 3Y (out), 10 3B (in), 11 3A (in), 12 4Y (out), 13 4B (in), 14 4A (in), 15 ~{G} (in), 16 VCC (power)

## SN74AHCT123AD
designator U?
Dual Retriggerable Monostable Multivibrators, D0016A, TUBE; Generic Part Number: SN74AHCT123A; Manufacturer: Texas Instruments; PartNumber: SN74AHCT123AD; VCC(Min)(V): 2; VCC(Max)(V): 5.5; Output Type: CMOS; ICC @ Nom Voltage(Max)(mA): 0.975; Input Type: TTL; F @ Nom Voltage(Max)(Mhz): 110; Rating: Catalog; Technology Family: AHCT; Voltage(Nom)(V): 5; Schmitt Trigger: No; Output Drive (IOL/IOH)(Max)(mA): 8/-8; tpd @ Nom Voltage(Max)(ns): 17; DatasheetVersion: SCLS420G; PackageReference: D0016A; Supplier 1: Mouser; Supplier Part Number 1: 595-SN74AHCT123AD; Supplier 2: Digi-Key; Supplier Part Number 2: 296-39196-5-ND; Bits(#): 2; Operating Temperature Range(C): -40 to 85; Code_JEDEC: MS-012 variation AC; ComponentLink1Description: Manufacturer URL; ComponentLink1URL: http://www.ti.com/; ComponentLink2Description: Datasheet; ComponentLink2URL: http://www.ti.com/lit/ds/symlink/sn74ahct123a.pdf; ComponentLink3Description: Package Specification; ComponentLink3URL: http://www.ti.com/lit/ml/mpds178g/mpds178g.pdf
footprint D0016A_N (SOIC, 16-Leads, Body 10x4mm, Pitch 1.27mm, IPC Medium Density)
footprint D0016A_M (SOIC, 16-Leads, Body 10x4mm, Pitch 1.27mm, IPC Low Density)
footprint D0016A_L (SOIC, 16-Leads, Body 10x4mm, Pitch 1.27mm, IPC High Density)
part A pins: 1 1~{A} (in), 2 1B (in), 3 1~{CLR} (in), 4 1~{Q} (out), 13 1Q (out), 14 1CEXT, 15 1REXT/CEXT
part B pins: 5 2Q (out), 6 2CEXT, 7 2REXT/CEXT, 9 2~{A} (in), 10 2B (in), 11 2~{CLR} (in), 12 2~{Q} (out)
part C pins: 8 GND (power), 16 VCC (power)

## SN74AHCT123ADBR
designator U?
Dual Retriggerable Monostable Multivibrators, DB0016A, LARGE T&R; Generic Part Number: SN74AHCT123A; Manufacturer: Texas Instruments; PartNumber: SN74AHCT123ADBR; VCC(Min)(V): 2; VCC(Max)(V): 5.5; Output Type: CMOS; ICC @ Nom Voltage(Max)(mA): 0.975; Input Type: TTL; F @ Nom Voltage(Max)(Mhz): 110; Rating: Catalog; Technology Family: AHCT; Voltage(Nom)(V): 5; Schmitt Trigger: No; Output Drive (IOL/IOH)(Max)(mA): 8/-8; tpd @ Nom Voltage(Max)(ns): 17; DatasheetVersion: SCLS420G; PackageReference: DB0016A; Supplier 1: Mouser; Supplier Part Number 1: 595-SN74AHCT123ADBR; Supplier 2: Digi-Key; Supplier Part Number 2: 296-4648-2-ND; Supplier 3: Digi-Key; Supplier Part Number 3: 296-4648-1-ND; Supplier 4: Digi-Key; Supplier Part Number 4: 296-4648-6-ND; Bits(#): 2; Operating Temperature Range(C): -40 to 85; Code_JEDEC: MO-150; ComponentLink1Description: Manufacturer URL; ComponentLink1URL: http://www.ti.com/; ComponentLink2Description: Datasheet; ComponentLink2URL: http://www.ti.com/lit/ds/symlink/sn74ahct123a.pdf; ComponentLink3Description: Package Specification; ComponentLink3URL: http://www.ti.com/lit/ml/mpds507/mpds507.pdf
footprint DB0016A_N (SOP, 16-Leads, Body 5.6x6.5mm, Pitch 0.65mm, IPC Medium Density)
footprint DB0016A_M (SOP, 16-Leads, Body 5.6x6.5mm, Pitch 0.65mm, IPC Low Density)
footprint DB0016A_L (SOP, 16-Leads, Body 5.6x6.5mm, Pitch 0.65mm, IPC High Density)
part A pins: 1 1~{A} (in), 2 1B (in), 3 1~{CLR} (in), 4 1~{Q} (out), 13 1Q (out), 14 1CEXT, 15 1REXT/CEXT
part B pins: 5 2Q (out), 6 2CEXT, 7 2REXT/CEXT, 9 2~{A} (in), 10 2B (in), 11 2~{CLR} (in), 12 2~{Q} (out)
part C pins: 8 GND (power), 16 VCC (power)

## SN74AHCT123ADGVR
designator U?
Dual Retriggerable Monostable Multivibrators, DGV0016A, LARGE T&R; Generic Part Number: SN74AHCT123A; Manufacturer: Texas Instruments; PartNumber: SN74AHCT123ADGVR; VCC(Min)(V): 2; VCC(Max)(V): 5.5; Output Type: CMOS; ICC @ Nom Voltage(Max)(mA): 0.975; Input Type: TTL; F @ Nom Voltage(Max)(Mhz): 110; Rating: Catalog; Technology Family: AHCT; Voltage(Nom)(V): 5; Schmitt Trigger: No; Output Drive (IOL/IOH)(Max)(mA): 8/-8; tpd @ Nom Voltage(Max)(ns): 17; DatasheetVersion: SCLS420G; PackageReference: DGV0016A; Supplier 1: Mouser; Supplier Part Number 1: 595-SN74AHCT123ADGVR; Supplier 2: Digi-Key; Supplier Part Number 2: 296-4649-2-ND; Supplier 3: Digi-Key; Supplier Part Number 3: 296-4649-1-ND; Supplier 4: Digi-Key; Supplier Part Number 4: 296-4649-6-ND; Bits(#): 2; Operating Temperature Range(C): -40 to 85; Code_JEDEC: MO-194; ComponentLink1Description: Manufacturer URL; ComponentLink1URL: http://www.ti.com/; ComponentLink2Description: Datasheet; ComponentLink2URL: http://www.ti.com/lit/ds/symlink/sn74ahct123a.pdf; ComponentLink3Description: Package Specification; ComponentLink3URL: http://www.ti.com/lit/ml/mpds006c/mpds006c.pdf
footprint DGV0016A_N (SOP, 16-Leads, Body 4.5x3.7mm, Pitch 0.4mm, IPC Medium Density)
footprint DGV0016A_M (SOP, 16-Leads, Body 4.5x3.7mm, Pitch 0.4mm, IPC Low Density)
footprint DGV0016A_L (SOP, 16-Leads, Body 4.5x3.7mm, Pitch 0.4mm, IPC High Density)
part A pins: 1 1~{A} (in), 2 1B (in), 3 1~{CLR} (in), 4 1~{Q} (out), 13 1Q (out), 14 1CEXT, 15 1REXT/CEXT
part B pins: 5 2Q (out), 6 2CEXT, 7 2REXT/CEXT, 9 2~{A} (in), 10 2B (in), 11 2~{CLR} (in), 12 2~{Q} (out)
part C pins: 8 GND (power), 16 VCC (power)

## SN74AHCT123ADR
designator U?
Dual Retriggerable Monostable Multivibrators, D0016A, LARGE T&R; Generic Part Number: SN74AHCT123A; Manufacturer: Texas Instruments; PartNumber: SN74AHCT123ADR; VCC(Min)(V): 2; VCC(Max)(V): 5.5; Output Type: CMOS; ICC @ Nom Voltage(Max)(mA): 0.975; Input Type: TTL; F @ Nom Voltage(Max)(Mhz): 110; Rating: Catalog; Technology Family: AHCT; Voltage(Nom)(V): 5; Schmitt Trigger: No; Output Drive (IOL/IOH)(Max)(mA): 8/-8; tpd @ Nom Voltage(Max)(ns): 17; DatasheetVersion: SCLS420G; PackageReference: D0016A; Supplier 1: Mouser; Supplier Part Number 1: 595-SN74AHCT123ADR; Supplier 2: Digi-Key; Supplier Part Number 2: 296-4650-2-ND; Supplier 3: Digi-Key; Supplier Part Number 3: 296-4650-1-ND; Supplier 4: Digi-Key; Supplier Part Number 4: 296-4650-6-ND; Bits(#): 2; Operating Temperature Range(C): -40 to 85; Code_JEDEC: MS-012 variation AC; ComponentLink1Description: Manufacturer URL; ComponentLink1URL: http://www.ti.com/; ComponentLink2Description: Datasheet; ComponentLink2URL: http://www.ti.com/lit/ds/symlink/sn74ahct123a.pdf; ComponentLink3Description: Package Specification; ComponentLink3URL: http://www.ti.com/lit/ml/mpds178g/mpds178g.pdf
footprint D0016A_N (SOIC, 16-Leads, Body 10x4mm, Pitch 1.27mm, IPC Medium Density)
footprint D0016A_M (SOIC, 16-Leads, Body 10x4mm, Pitch 1.27mm, IPC Low Density)
footprint D0016A_L (SOIC, 16-Leads, Body 10x4mm, Pitch 1.27mm, IPC High Density)
part A pins: 1 1~{A} (in), 2 1B (in), 3 1~{CLR} (in), 4 1~{Q} (out), 13 1Q (out), 14 1CEXT, 15 1REXT/CEXT
part B pins: 5 2Q (out), 6 2CEXT, 7 2REXT/CEXT, 9 2~{A} (in), 10 2B (in), 11 2~{CLR} (in), 12 2~{Q} (out)
part C pins: 8 GND (power), 16 VCC (power)

## SN74AHCT123AN
designator U?
Dual Retriggerable Monostable Multivibrators, N0016A, TUBE; Generic Part Number: SN74AHCT123A; Manufacturer: Texas Instruments; PartNumber: SN74AHCT123AN; VCC(Min)(V): 2; VCC(Max)(V): 5.5; Output Type: CMOS; ICC @ Nom Voltage(Max)(mA): 0.975; Input Type: TTL; F @ Nom Voltage(Max)(Mhz): 110; Rating: Catalog; Technology Family: AHCT; Voltage(Nom)(V): 5; Schmitt Trigger: No; Output Drive (IOL/IOH)(Max)(mA): 8/-8; tpd @ Nom Voltage(Max)(ns): 17; DatasheetVersion: SCLS420G; PackageReference: N0016A; Supplier 1: Mouser; Supplier Part Number 1: 595-SN74AHCT123AN; Supplier 2: Digi-Key; Supplier Part Number 2: 296-41620-5-ND; Bits(#): 2; Operating Temperature Range(C): -40 to 85; Code_JEDEC: MS-001; ComponentLink1Description: Manufacturer URL; ComponentLink1URL: http://www.ti.com/; ComponentLink2Description: Datasheet; ComponentLink2URL: http://www.ti.com/lit/ds/symlink/sn74ahct123a.pdf; ComponentLink3Description: Package Specification; ComponentLink3URL: http://www.ti.com/lit/ml/mpdi002c/mpdi002c.pdf
footprint N0016A (DIP, 16-Leads, Body 19.7x6.6mm, Pitch 2.54mm)
part A pins: 1 1~{A} (in), 2 1B (in), 3 1~{CLR} (in), 4 1~{Q} (out), 13 1Q (out), 14 1CEXT, 15 1REXT/CEXT
part B pins: 5 2Q (out), 6 2CEXT, 7 2REXT/CEXT, 9 2~{A} (in), 10 2B (in), 11 2~{CLR} (in), 12 2~{Q} (out)
part C pins: 8 GND (power), 16 VCC (power)

## SN74AHCT123APWR
designator U?
Dual Retriggerable Monostable Multivibrators, PW0016A, LARGE T&R; Generic Part Number: SN74AHCT123A; Manufacturer: Texas Instruments; PartNumber: SN74AHCT123APWR; VCC(Min)(V): 2; VCC(Max)(V): 5.5; Output Type: CMOS; ICC @ Nom Voltage(Max)(mA): 0.975; Input Type: TTL; F @ Nom Voltage(Max)(Mhz): 110; Rating: Catalog; Technology Family: AHCT; Voltage(Nom)(V): 5; Schmitt Trigger: No; Output Drive (IOL/IOH)(Max)(mA): 8/-8; tpd @ Nom Voltage(Max)(ns): 17; DatasheetVersion: SCLS420G; PackageReference: PW0016A; Supplier 1: Mouser; Supplier Part Number 1: 595-SN74AHCT123APWR; Supplier 2: Digi-Key; Supplier Part Number 2: 296-4651-2-ND; Supplier 3: Digi-Key; Supplier Part Number 3: 296-4651-1-ND; Supplier 4: Digi-Key; Supplier Part Number 4: 296-4651-6-ND; Bits(#): 2; Operating Temperature Range(C): -40 to 85; Code_JEDEC: MO-153; ComponentLink1Description: Manufacturer URL; ComponentLink1URL: http://www.ti.com/; ComponentLink2Description: Datasheet; ComponentLink2URL: http://www.ti.com/lit/ds/symlink/sn74ahct123a.pdf; ComponentLink3Description: Package Specification; ComponentLink3URL: http://www.ti.com/lit/ml/mpds361/mpds361.pdf
footprint PW0016A_N (SOP, 16-Leads, Body 5.1x4.5mm, Pitch 0.65mm, IPC Medium Density)
footprint PW0016A_M (SOP, 16-Leads, Body 5.1x4.5mm, Pitch 0.65mm, IPC Low Density)
footprint PW0016A_L (SOP, 16-Leads, Body 5.1x4.5mm, Pitch 0.65mm, IPC High Density)
part A pins: 1 1~{A} (in), 2 1B (in), 3 1~{CLR} (in), 4 1~{Q} (out), 13 1Q (out), 14 1CEXT, 15 1REXT/CEXT
part B pins: 5 2Q (out), 6 2CEXT, 7 2REXT/CEXT, 9 2~{A} (in), 10 2B (in), 11 2~{CLR} (in), 12 2~{Q} (out)
part C pins: 8 GND (power), 16 VCC (power)

## SN74AHCT138D
designator U?
3-Line to 8-Line Decoder / Demultiplexer, D0016A, TUBE; Generic Part Number: SN74AHCT138; Manufacturer: Texas Instruments; PartNumber: SN74AHCT138D; VCC(Min)(V): 4.5; VCC(Max)(V): 5.5; Output Type: CMOS; ICC @ Nom Voltage(Max)(mA): 0.04; Input Type: TTL; Bits(#): 8; F @ Nom Voltage(Max)(Mhz): 70; Configuration: 3：8; Channels(#): 1; Rating: Catalog; Technology Family: AHCT; Voltage(Nom)(V): 5; Schmitt Trigger: No; Output Drive (IOL/IOH)(Max)(mA): 8/-8; tpd @ Nom Voltage(Max)(ns): 12; DatasheetVersion: SCLS266M; PackageReference: D0016A; Supplier 1: Mouser; Supplier Part Number 1: 595-SN74AHCT138D; Supplier 2: Digi-Key; Supplier Part Number 2: 296-4663-5-ND; Function: Decoder/Demultiplexer; Operating Temperature Range(C): -40 to 85; Type: Standard; Code_JEDEC: MS-012 variation AC; ComponentLink1Description: Manufacturer URL; ComponentLink1URL: http://www.ti.com/; ComponentLink2Description: Datasheet; ComponentLink2URL: http://www.ti.com/lit/ds/symlink/sn74ahct138.pdf; ComponentLink3Description: Package Specification; ComponentLink3URL: http://www.ti.com/lit/ml/mpds178g/mpds178g.pdf
footprint D0016A_N (SOIC, 16-Leads, Body 10x4mm, Pitch 1.27mm, IPC Medium Density)
footprint D0016A_M (SOIC, 16-Leads, Body 10x4mm, Pitch 1.27mm, IPC Low Density)
footprint D0016A_L (SOIC, 16-Leads, Body 10x4mm, Pitch 1.27mm, IPC High Density)
pins: 1 A (in), 2 B (in), 3 C (in), 4 ~{G}2A (in), 5 ~{G}2B (in), 6 G1 (in), 7 ~{Y7} (out), 8 GND (power), 9 ~{Y6} (out), 10 ~{Y5} (out), 11 ~{Y4} (out), 12 ~{Y3} (out), 13 ~{Y2} (out), 14 ~{Y1} (out), 15 ~{Y0} (out), 16 VCC (power)

## SN74AHCT138DBR
designator U?
3-Line to 8-Line Decoder / Demultiplexer, DB0016A, LARGE T&R; Generic Part Number: SN74AHCT138; Manufacturer: Texas Instruments; PartNumber: SN74AHCT138DBR; VCC(Min)(V): 4.5; VCC(Max)(V): 5.5; Output Type: CMOS; ICC @ Nom Voltage(Max)(mA): 0.04; Input Type: TTL; Bits(#): 8; F @ Nom Voltage(Max)(Mhz): 70; Configuration: 3：8; Channels(#): 1; Rating: Catalog; Technology Family: AHCT; Voltage(Nom)(V): 5; Schmitt Trigger: No; Output Drive (IOL/IOH)(Max)(mA): 8/-8; tpd @ Nom Voltage(Max)(ns): 12; DatasheetVersion: SCLS266M; PackageReference: DB0016A; Supplier 1: Mouser; Supplier Part Number 1: 595-SN74AHCT138DBR; Supplier 2: Digi-Key; Supplier Part Number 2: 296-4664-2-ND; Supplier 3: Digi-Key; Supplier Part Number 3: 296-4664-1-ND; Supplier 4: Digi-Key; Supplier Part Number 4: 296-4664-6-ND; Function: Decoder/Demultiplexer; Operating Temperature Range(C): -40 to 85; Type: Standard; Code_JEDEC: MO-150; ComponentLink1Description: Manufacturer URL; ComponentLink1URL: http://www.ti.com/; ComponentLink2Description: Datasheet; ComponentLink2URL: http://www.ti.com/lit/ds/symlink/sn74ahct138.pdf; ComponentLink3Description: Package Specification; ComponentLink3URL: http://www.ti.com/lit/ml/mpds507/mpds507.pdf
footprint DB0016A_N (SOP, 16-Leads, Body 5.6x6.5mm, Pitch 0.65mm, IPC Medium Density)
footprint DB0016A_M (SOP, 16-Leads, Body 5.6x6.5mm, Pitch 0.65mm, IPC Low Density)
footprint DB0016A_L (SOP, 16-Leads, Body 5.6x6.5mm, Pitch 0.65mm, IPC High Density)
pins: 1 A (in), 2 B (in), 3 C (in), 4 ~{G}2A (in), 5 ~{G}2B (in), 6 G1 (in), 7 ~{Y7} (out), 8 GND (power), 9 ~{Y6} (out), 10 ~{Y5} (out), 11 ~{Y4} (out), 12 ~{Y3} (out), 13 ~{Y2} (out), 14 ~{Y1} (out), 15 ~{Y0} (out), 16 VCC (power)

## SN74AHCT138DGVR
designator U?
3-Line to 8-Line Decoder / Demultiplexer, DGV0016A, LARGE T&R; Generic Part Number: SN74AHCT138; Manufacturer: Texas Instruments; PartNumber: SN74AHCT138DGVR; VCC(Min)(V): 4.5; VCC(Max)(V): 5.5; Output Type: CMOS; ICC @ Nom Voltage(Max)(mA): 0.04; Input Type: TTL; Bits(#): 8; F @ Nom Voltage(Max)(Mhz): 70; Configuration: 3：8; Channels(#): 1; Rating: Catalog; Technology Family: AHCT; Voltage(Nom)(V): 5; Schmitt Trigger: No; Output Drive (IOL/IOH)(Max)(mA): 8/-8; tpd @ Nom Voltage(Max)(ns): 12; DatasheetVersion: SCLS266M; PackageReference: DGV0016A; Supplier 1: Mouser; Supplier Part Number 1: 595-SN74AHCT138DGVR; Supplier 2: Digi-Key; Supplier Part Number 2: 296-4665-2-ND; Supplier 3: Digi-Key; Supplier Part Number 3: 296-4665-1-ND; Supplier 4: Digi-Key; Supplier Part Number 4: 296-4665-6-ND; Function: Decoder/Demultiplexer; Operating Temperature Range(C): -40 to 85; Type: Standard; Code_JEDEC: MO-194; ComponentLink1Description: Manufacturer URL; ComponentLink1URL: http://www.ti.com/; ComponentLink2Description: Datasheet; ComponentLink2URL: http://www.ti.com/lit/ds/symlink/sn74ahct138.pdf; ComponentLink3Description: Package Specification; ComponentLink3URL: http://www.ti.com/lit/ml/mpds006c/mpds006c.pdf
footprint DGV0016A_N (SOP, 16-Leads, Body 4.5x3.7mm, Pitch 0.4mm, IPC Medium Density)
footprint DGV0016A_M (SOP, 16-Leads, Body 4.5x3.7mm, Pitch 0.4mm, IPC Low Density)
footprint DGV0016A_L (SOP, 16-Leads, Body 4.5x3.7mm, Pitch 0.4mm, IPC High Density)
pins: 1 A (in), 2 B (in), 3 C (in), 4 ~{G}2A (in), 5 ~{G}2B (in), 6 G1 (in), 7 ~{Y7} (out), 8 GND (power), 9 ~{Y6} (out), 10 ~{Y5} (out), 11 ~{Y4} (out), 12 ~{Y3} (out), 13 ~{Y2} (out), 14 ~{Y1} (out), 15 ~{Y0} (out), 16 VCC (power)

## SN74AHCT138DR
designator U?
3-Line to 8-Line Decoder / Demultiplexer, D0016A, LARGE T&R; Generic Part Number: SN74AHCT138; Manufacturer: Texas Instruments; PartNumber: SN74AHCT138DR; VCC(Min)(V): 4.5; VCC(Max)(V): 5.5; Output Type: CMOS; ICC @ Nom Voltage(Max)(mA): 0.04; Input Type: TTL; Bits(#): 8; F @ Nom Voltage(Max)(Mhz): 70; Configuration: 3：8; Channels(#): 1; Rating: Catalog; Technology Family: AHCT; Voltage(Nom)(V): 5; Schmitt Trigger: No; Output Drive (IOL/IOH)(Max)(mA): 8/-8; tpd @ Nom Voltage(Max)(ns): 12; DatasheetVersion: SCLS266M; PackageReference: D0016A; Supplier 1: Mouser; Supplier Part Number 1: 595-SN74AHCT138DR; Supplier 2: Digi-Key; Supplier Part Number 2: 296-14701-2-ND; Supplier 3: Digi-Key; Supplier Part Number 3: 296-14701-1-ND; Supplier 4: Digi-Key; Supplier Part Number 4: 296-14701-6-ND; Function: Decoder/Demultiplexer; Operating Temperature Range(C): -40 to 85; Type: Standard; Code_JEDEC: MS-012 variation AC; ComponentLink1Description: Manufacturer URL; ComponentLink1URL: http://www.ti.com/; ComponentLink2Description: Datasheet; ComponentLink2URL: http://www.ti.com/lit/ds/symlink/sn74ahct138.pdf; ComponentLink3Description: Package Specification; ComponentLink3URL: http://www.ti.com/lit/ml/mpds178g/mpds178g.pdf
footprint D0016A_N (SOIC, 16-Leads, Body 10x4mm, Pitch 1.27mm, IPC Medium Density)
footprint D0016A_M (SOIC, 16-Leads, Body 10x4mm, Pitch 1.27mm, IPC Low Density)
footprint D0016A_L (SOIC, 16-Leads, Body 10x4mm, Pitch 1.27mm, IPC High Density)
pins: 1 A (in), 2 B (in), 3 C (in), 4 ~{G}2A (in), 5 ~{G}2B (in), 6 G1 (in), 7 ~{Y7} (out), 8 GND (power), 9 ~{Y6} (out), 10 ~{Y5} (out), 11 ~{Y4} (out), 12 ~{Y3} (out), 13 ~{Y2} (out), 14 ~{Y1} (out), 15 ~{Y0} (out), 16 VCC (power)